# EAGLE library part 6120XX235221_612034235221 (library Wurth_Connectors_WR-BHD)
WR-BHD 2.54 mm Male Angled Box Header High Temperature KIND PROPERTIES: Pitch 2.54 mm Gender:Male MATERIAL PROPERTIES: Insulator Material:PA6T Insulator Flammability Rating UL94 V-0 Insulator Color:Black Contact Material :Copper Alloy Contact Plating :Gold Contact Type: Stamped GENERAL INFORMATION: Operating Temperature:-40 °C up to +125 °C Compliance:RoHS Working Voltage: 250 V (AC) Withstanding Voltage:500 V (AC) Contact Resistance: 20 mΩ Insulation Resistance:1000 MΩ PACKAGING PROPERTIES Packaging :Tray <https://www.we-online.de/katalog/media/o32907v209%20Family_WR-BHD_6120xx235221.jpg> Details see: https://www.we-online.de/katalog/en/em/BHD_2_54_MALE_ANGLED_BOX_HEADER_HIGH_TEMPERATURE_6120XX235221 Updated by Yingchun,Shan 2019-10-30 2019 (C) Würth Elektronik
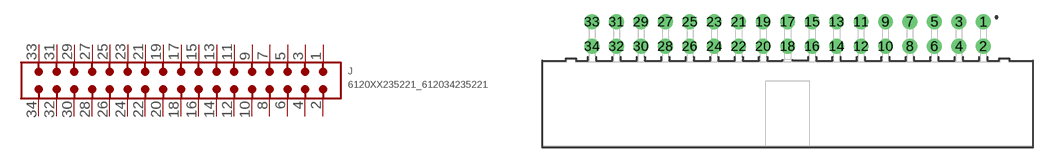
[diagram p131: symbol with the pads of 612034235221; footprint 612034235221]

Designator prefix J

## 6120XX235221_612034235221 (CONTACT-RESISTANCE: 20mOhm; DATASHEET-URL: https://www.we-online.com/redexpert/spec/612034235221?ae; GENDER: Male; IR: 3A; LENGTH: 50.8mm; MOUNT: THT; PACKAGING: Tray; PART-NUMBER: 612034235221; PINS: 34; PITCH: 2.54mm; TYPE: Angled; VALUE: 612034235221; WORKING-VOLTAGE: 250V(AC))  [612034235221]
1  1  pas
2  2  pas
3  3  pas
4  4  pas
5  5  pas
6  6  pas
7  7  pas
8  8  pas
9  9  pas
10  10  pas
11  11  pas
12  12  pas
13  13  pas
14  14  pas
15  15  pas
16  16  pas
17  17  pas
18  18  pas
19  19  pas
20  20  pas
21  21  pas
22  22  pas
23  23  pas
24  24  pas
25  25  pas
26  26  pas
27  27  pas
28  28  pas
29  29  pas
30  30  pas
31  31  pas
32  32  pas
33  33  pas
34  34  pas

## Footprint 612034235221 (pad centres in mm)
WR-BHD 2.54 mm Male Angled Box Header High Temperature,34 Pins
drill 1.02: 1 20.32,8.54; 2 20.32,6; 3 17.78,8.54; 4 17.78,6; 5 15.24,8.54; 6 15.24,6; 7 12.7,8.54; 8 12.7,6; 9 10.16,8.54; 10 10.16,6; 11 7.62,8.54; 12 7.62,6; 13 5.08,8.54; 14 5.08,6; 15 2.54,8.54; 16 2.54,6; 17 0,8.54; 18 0,6; 19 -2.54,8.54; 20 -2.54,6; 21 -5.08,8.54; 22 -5.08,6; 23 -7.62,8.54; 24 -7.62,6; 25 -10.16,8.54; 26 -10.16,6; 27 -12.7,8.54; 28 -12.7,6; 29 -15.24,8.54; 30 -15.24,6; 31 -17.78,8.54; 32 -17.78,6; 33 -20.32,8.54; 34 -20.32,6